# Altium footprint library WiFi_Lib.PcbLib: 36 footprints (part 2 of 3)
Each footprint in its own frame and in the unit in brackets; x right, y up, seen from the top. Pads: shape width x height; smd on the part's side, far side on the other; paste and mask are expansions set on the pad; w line width, h text height; cw(c..) or ccw(c..) is an arc to the next point about the centre after c.
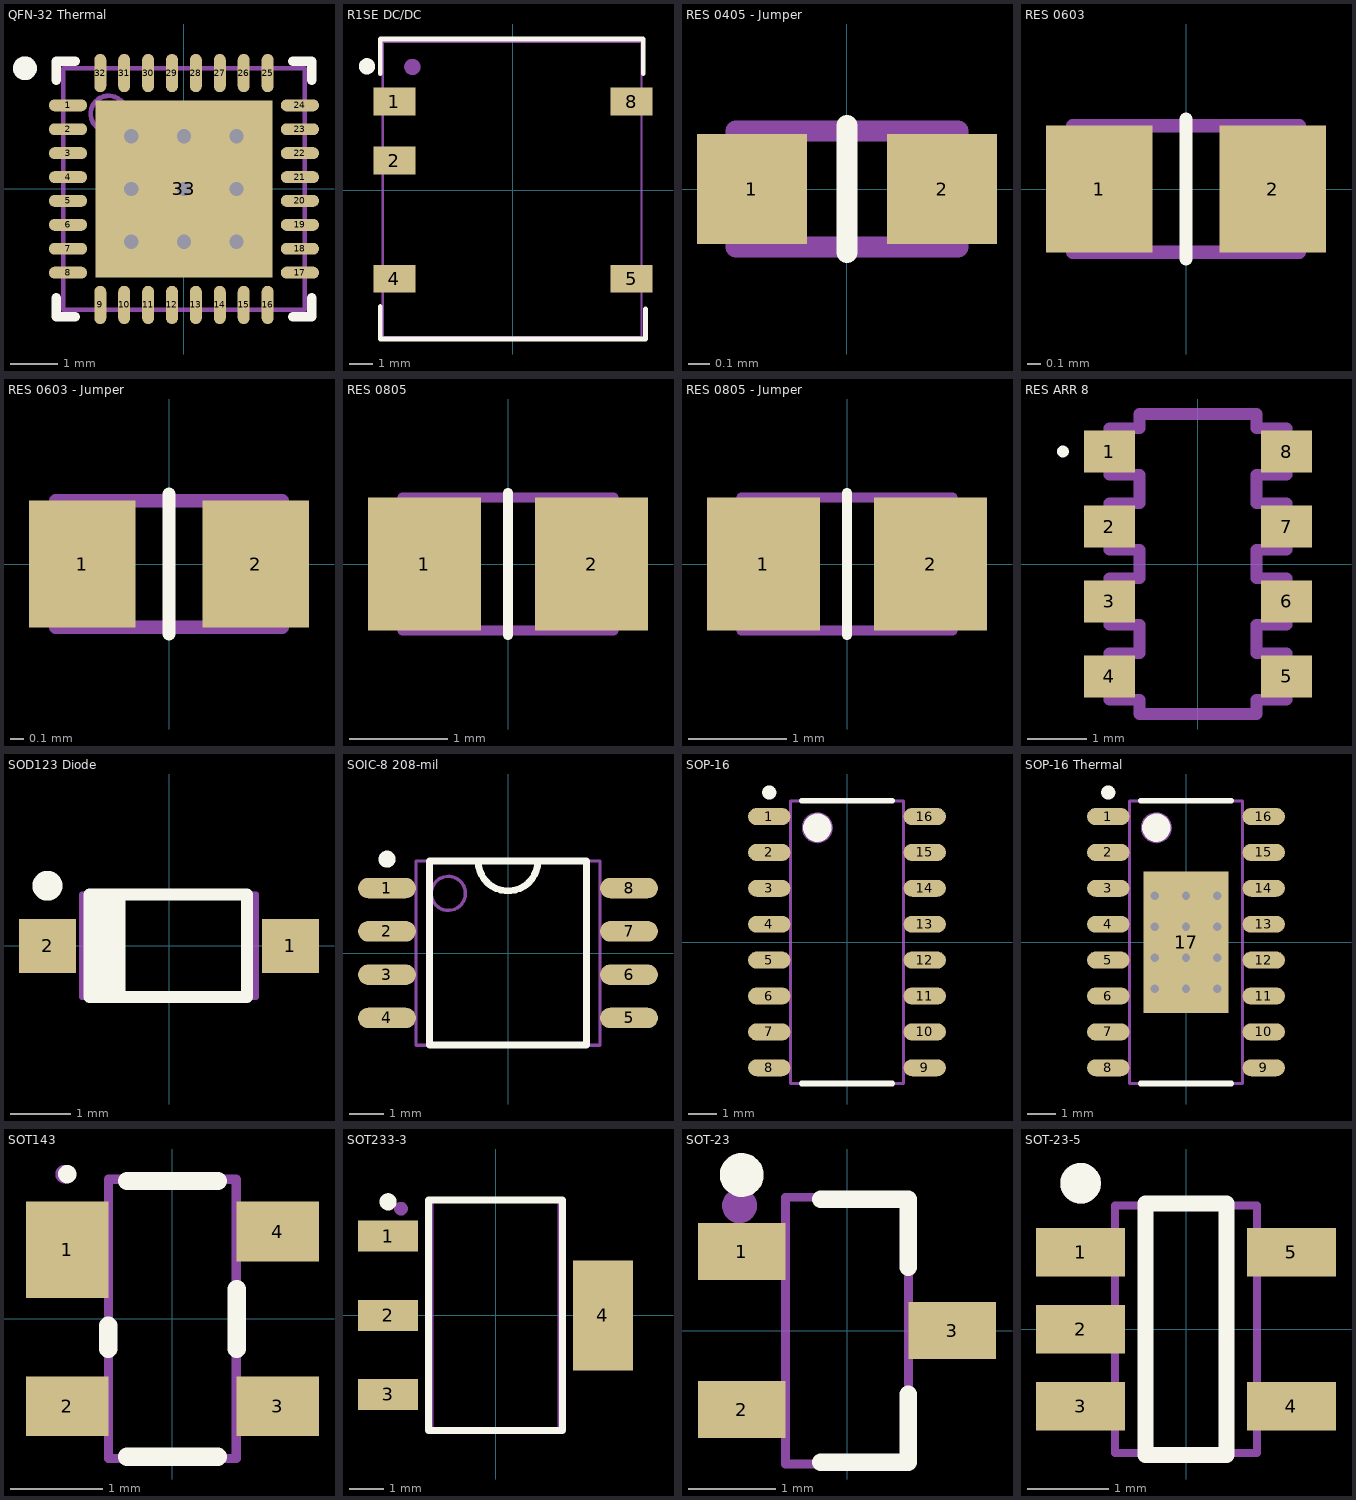
[diagram p1: the footprints below, top view; thin cyan lines are the x and y axes]

## QFN-32 Thermal [mm] "QFN, 32-Leads, Body 5.00x5.00mm, Pitch 0.50mm, Thermal Pad 3.70x3.70mm, IPC Medium Density"
height 0.9
pads (33):
  oval 0.8x0.25 smd: 1(-2.425,1.75) 2(-2.425,1.25) 3(-2.425,0.75) 4(-2.425,0.25) 5(-2.425,-0.25) 6(-2.425,-0.75) 7(-2.425,-1.25) 8(-2.425,-1.75) 17(2.425,-1.75) 18(2.425,-1.25) 19(2.425,-0.75) 20(2.425,-0.25) 21(2.425,0.25) 22(2.425,0.75) 23(2.425,1.25) 24(2.425,1.75)
  oval 0.25x0.8 smd: 9(-1.75,-2.425) 10(-1.25,-2.425) 11(-0.75,-2.425) 12(-0.25,-2.425) 13(0.25,-2.425) 14(0.75,-2.425) 15(1.25,-2.425) 16(1.75,-2.425) 25(1.75,2.425) 26(1.25,2.425) 27(0.75,2.425) 28(0.25,2.425) 29(-0.25,2.425) 30(-0.75,2.425) 31(-1.25,2.425) 32(-1.75,2.425)
  rect 3.7x3.7 smd: 33(0,0)
via 1.1,-1.1 diameter 0.5 hole 0.3
via 0,-1.1 diameter 0.5 hole 0.3
via -1.1,-1.1 diameter 0.5 hole 0.3
via 1.1,0 diameter 0.5 hole 0.3
via 0,0 diameter 0.5 hole 0.3
via -1.1,0 diameter 0.5 hole 0.3
via 1.1,1.1 diameter 0.5 hole 0.3
via 0,1.1 diameter 0.5 hole 0.3
via -1.1,1.1 diameter 0.5 hole 0.3
Top Overlay:
  circle w0.25: c-3.325,2.525 r0.125
  lines w0.2: -2.675,-2.275 -2.675,-2.675 -2.275,-2.675 ; -2.675,2.275 -2.675,2.675 -2.275,2.675 ; 2.275,-2.675 2.675,-2.675 2.675,-2.275 ; 2.275,2.675 2.675,2.675 2.675,2.275
Mechanical 13:
  circle w0.1: c-1.575,1.575 r0.375
  lines w0.1: -2.525,-2.525 2.525,-2.525 2.525,2.525 -2.525,2.525 -2.525,-2.525
  text "'.Designator'" at -1.575,-1.125 h1.5
3D body "QFN-32 Thermal.step": height 0.9, standoff 0, extent -2.575,-2.575 2.575,2.575

## R1SE DC/DC [mm]
pads (5):
  rect 1.8x1.2 smd: 1(-5.1,3.81) 2(-5.1,1.27) 4(-5.1,-3.81) 5(5.1,-3.81) 8(5.1,3.81)
Top Overlay:
  circle w0.4: c-6.275,5.325 r0.15
  lines w0.2: -5.7,-5 -5.7,-6.4 5.7,-6.4 5.7,-5.1 ; -5.7,5 -5.7,6.5 5.6,6.5 5.6,5
Mechanical 13:
  circle w0.4: c-4.325,5.3 r0.15
  lines w0.1: -5.6,-6.325 -5.6,6.375 5.525,6.375 5.525,-6.325 -5.6,-6.325
  text "'.Designator'" at -2.1,-0.75 h2
3D body "R1SE-0505-R--3DModel-STEP-56544.STEP": height 7.01, standoff 0.01, extent -5.6,-6.375 5.5,6.375

## RES 0405 - Jumper [mm] "Chip Resistor, 2-Leads, Body 1.00x0.50mm, IPC Medium Density"
height 0.4
pads (2):
  rect 0.52x0.52 smd mask+0.05: 1(-0.45,0) 2(0.45,0)
Top Overlay:
  lines w0.1: 0,-0.3 0,0.3
Mechanical 13:
  lines w0.1: -0.525,-0.275 0.525,-0.275 0.525,0.275 -0.525,0.275 -0.525,-0.275
  text "'.Designator'" at -0.45,-0.175 h0.3
3D body "RES 0405.step": height 0.4, standoff 0, extent -0.525,-0.275 0.525,0.275

## RES 0603 [mm] "Chip Resistor, 2-Leads, Body 1.60x0.85mm, IPC Medium Density"
height 0.55
pads (2):
  rect 0.8x0.95 smd: 1(-0.65,0) 2(0.65,0)
Top Overlay:
  lines w0.1: 0,-0.525 0,0.525
Mechanical 13:
  lines w0.1: -0.85,-0.475 0.85,-0.475 0.85,0.475 -0.85,0.475 -0.85,-0.475
  text "'.Designator'" at -0.55,-0.275 h0.5
3D body "RESC1608X06N.step": height 0.55, standoff 0, extent -0.85,-0.475 0.85,0.475

## RES 0603 - Jumper [mm] "Chip Resistor, 2-Leads, Body 1.60x0.85mm, IPC Medium Density"
height 0.55
pads (2):
  rect 0.8x0.95 smd: 1(-0.65,0) 2(0.65,0)
Top Overlay:
  lines w0.1: 0,-0.525 0,0.525
Mechanical 13:
  lines w0.1: -0.85,-0.475 -0.85,0.475 0.85,0.475 0.85,-0.475 -0.85,-0.475
  text "'.Designator'" at -0.55,-0.275 h0.5
3D body "RESC1608X06N.step": height 0.55, standoff 0, extent -0.85,-0.475 0.85,0.475

## RES 0805 [mm] "Chip Resistor, 2-Leads, Body 1.95x1.20mm, IPC Medium Density"
height 0.6
pads (2):
  rect 1.15x1.35 smd: 1(-0.85,0) 2(0.85,0)
Top Overlay:
  lines w0.1: 0,-0.725 0,0.725
Mechanical 13:
  lines w0.1: -1.075,-0.675 -1.075,0.675 1.075,0.675 1.075,-0.675 -1.075,-0.675
  text "'.Designator'" at -0.8,-0.5 h1
3D body "RESC1912X06N.step": height 0.6, standoff 0, extent -1.075,-0.675 1.075,0.675

## RES 0805 - Jumper [mm] "Chip Resistor, 2-Leads, Body 1.95x1.20mm, IPC Medium Density"
height 0.6
pads (2):
  rect 1.15x1.35 smd: 1(-0.85,0) 2(0.85,0)
Top Overlay:
  lines w0.1: 0,-0.725 0,0.725
Mechanical 13:
  lines w0.1: -1.075,-0.675 -1.075,0.675 1.075,0.675 1.075,-0.675 -1.075,-0.675
  text "'.Designator'" at -0.875,-0.325 h0.7
3D body "RESC1912X06N.step": height 0.6, standoff 0, extent -1.075,-0.675 1.075,0.675

## RES ARR 8 [mm] "Chip Array, ConvexE, 8-Leads, Pitch 1.27mm, Body 5.08x3.05mm, IPC Medium Density"
height 0.55
pads (8):
  rect 0.86x0.71 smd: 1(-1.5,1.905) 2(-1.5,0.635) 3(-1.5,-0.635) 4(-1.5,-1.905) 5(1.5,-1.905) 6(1.5,-0.635) 7(1.5,0.635) 8(1.5,1.905)
Top Overlay:
  circle w0.1: c-2.286,1.905 r0.05
Mechanical 13:
  lines w0.2: -1.5,-2.3 -1.5,-1.51 -0.99,-1.51 -0.99,-1.03 -1.5,-1.03 -1.5,-0.24 -0.99,-0.24 -0.99,0.24 -1.5,0.24 -1.5,1.03 -0.99,1.03 -0.99,1.51 -1.5,1.51 -1.5,2.3 -0.99,2.3 -0.99,2.54 0.99,2.54 0.99,2.3 1.5,2.3 1.5,1.51 0.99,1.51 0.99,1.03 1.5,1.03 1.5,0.24 0.99,0.24 0.99,-0.24 1.5,-0.24 1.5,-1.03 0.99,-1.03 0.99,-1.51 1.5,-1.51 1.5,-2.3 0.99,-2.3 0.99,-2.54 -0.99,-2.54 -0.99,-2.3 -1.5,-2.3
  text "'.Designator'" at -0.675,-0.425 h1
3D body "RES ARR 8.step": height 0.55, standoff 0, extent -1.575,-2.54 1.575,2.54

## SOD123 Diode [mm] "2-Leads, Body 1.55x2.70mm, IPC Medium Density"
height 1.35
pads (2):
  rect 0.95x0.9 smd: 1(2.025,0) 2(-2.025,0)
Top Overlay:
  circle w0.25: c-2.025,1 r0.125
  rectangle: -1.325,-0.9 -0.725,0.85
  lines w0.2: -1.325,-0.85 -1.325,0.85 1.3,0.85 1.3,-0.85 -1.325,-0.85
Mechanical 13:
  rectangle: -1.45,-0.9 -0.8,0.85
  lines w0.1: -1.45,-0.85 -1.45,0.85 1.45,0.85 1.45,-0.85 -1.45,-0.85
  text "'.Designator'" at -0.55,-0.5 h1
3D body "1N5819HW-7-F--3DModel-STEP-56544.STEP": height 1.53, standoff 0, extent -1.85,-0.775 1.8,0.775

## SOIC-8 208-mil [mm] "SOIC, 8-Leads, Body 5.28x5.28mm, Pitch 1.27mm, IPC Medium Density"
height 2.16
pads (8):
  oval 1.7x0.6 smd: 1(-3.55,1.905) 2(-3.55,0.635) 3(-3.55,-0.635) 4(-3.55,-1.905) 5(3.55,-1.905) 6(3.55,-0.635) 7(3.55,0.635) 8(3.55,1.905)
Top Overlay:
  circle w0.25: c-3.55,2.755 r0.125
  lines w0.2: -0.878,2.7 ccw(c0,2.7) 0.878,2.7 ; -2.3,-2.7 2.3,-2.7 2.3,2.7 -2.3,2.7 -2.3,-2.7
Mechanical 13:
  circle w0.1: c-1.75,1.75 r0.5
  lines w0.1: -2.7,-2.7 2.7,-2.7 2.7,2.7 -2.7,2.7 -2.7,-2.7
  text "'.Designator'" at -1.025,-0.725 h1
3D body "SOIC-8 208-mil.step": height 2.16, standoff 0, extent -3.95,-2.7 3.95,2.7

## SOP-16 [mm] "SOP, 16-Leads, Body 9.90x3.90mm, Pitch 1.27mm, IPC Medium Density"
height 1.75
pads (16):
  oval 1.5x0.6 smd: 1(-2.75,4.445) 2(-2.75,3.175) 3(-2.75,1.905) 4(-2.75,0.635) 5(-2.75,-0.635) 6(-2.75,-1.905) 7(-2.75,-3.175) 8(-2.75,-4.445) 9(2.75,-4.445) 10(2.75,-3.175) 11(2.75,-1.905) 12(2.75,-0.635) 13(2.75,0.635) 14(2.75,1.905) 15(2.75,3.175) 16(2.75,4.445)
Top Overlay:
  circle w0.5: c-1.05,4.05 r0.25
  circle w0.25: c-2.75,5.295 r0.125
  lines w0.2: -1.6,-5 1.6,-5 ; -1.6,5 1.6,5
Mechanical 13:
  circle w0.1: c-1.05,4.05 r0.5
  lines w0.1: -2,-5 2,-5 2,5 -2,5 -2,-5
  text "'.Designator'" at 0.725,-3 h1.5
3D body "SOP-16 Thermal.step": height 1.75, standoff 0, extent -3.025,-5 3.025,5

## SOP-16 Thermal [mm] "SOP, 16-Leads, Body 9.90x3.90mm, Pitch 1.27mm, Thermal Pad 5.00x3.00mm, IPC Medium Density"
height 1.75
pads (17):
  oval 1.5x0.6 smd: 1(-2.75,4.445) 2(-2.75,3.175) 3(-2.75,1.905) 4(-2.75,0.635) 5(-2.75,-0.635) 6(-2.75,-1.905) 7(-2.75,-3.175) 8(-2.75,-4.445) 9(2.75,-4.445) 10(2.75,-3.175) 11(2.75,-1.905) 12(2.75,-0.635) 13(2.75,0.635) 14(2.75,1.905) 15(2.75,3.175) 16(2.75,4.445)
  rect 3x5 smd: 17(0,0)
via -1.1,1.65 diameter 0.5 hole 0.3
via 0,1.65 diameter 0.5 hole 0.3
via 1.1,1.65 diameter 0.5 hole 0.3
via -1.1,0.55 diameter 0.5 hole 0.3
via 0,0.55 diameter 0.5 hole 0.3
via 1.1,0.55 diameter 0.5 hole 0.3
via -1.1,-0.55 diameter 0.5 hole 0.3
via 0,-0.55 diameter 0.5 hole 0.3
via 1.1,-0.55 diameter 0.5 hole 0.3
via -1.1,-1.65 diameter 0.5 hole 0.3
via 0,-1.65 diameter 0.5 hole 0.3
via 1.1,-1.65 diameter 0.5 hole 0.3
Top Overlay:
  circle w0.25: c-2.75,5.295 r0.125
  circle w0.5: c-1.05,4.05 r0.25
  lines w0.2: -1.6,-5 1.6,-5 ; -1.6,5 1.6,5
Mechanical 13:
  circle w0.1: c-1.05,4.05 r0.5
  lines w0.1: -2,-5 -2,5 2,5 2,-5 -2,-5
  text "'.Designator'" at 0.775,-2.2 h1.5
3D body "SOP-16 Thermal.step": height 1.75, standoff 0, extent -3.025,-5 3.025,5

## SOT143 [mm] "SOT143, 4-Leads, Body 2.92x2.29mm, Pitch 1.90mm, IPC Medium Density"
height 1.14
pads (4):
  rect 0.9x1.05 smd: 1(-1.145,0.75)
  rect 0.9x0.65 smd: 2(-1.145,-0.95) 3(1.145,-0.95) 4(1.145,0.95)
Top Overlay:
  circle w0.1: c-1.145,1.575 r0.05
  lines w0.2: -0.7,-0.325 -0.7,-0.075 ; -0.495,-1.5 0.495,-1.5 ; -0.495,1.5 0.495,1.5 ; 0.7,-0.325 0.7,0.325
Mechanical 13:
  circle w0.1: c-1.175,1.575 r0.05
  lines w0.1: -0.695,-1.52 0.695,-1.52 0.695,1.52 -0.695,1.52 -0.695,-1.52
  text "'.Designator'" at 0.575,-1.05 h1
3D body "SOT143.step": height 1.14, standoff 0, extent -1.198,-1.52 1.198,1.52

## SOT233-3 [mm] "SOT223, 4-Leads, Body 6.50x7.00mm (avg), Pitch 2.30mm, IPC Medium Density"
height 1.8
pads (4):
  rect 1.75x0.9 smd: 1(-3.125,2.3) 2(-3.125,0) 3(-3.125,-2.3)
  rect 1.75x3.2 smd: 4(3.125,0)
Top Overlay:
  circle w0.25: c-3.125,3.3 r0.125
  lines w0.2: -1.95,-3.35 -1.95,3.35 1.95,3.35 1.95,-3.35 -1.95,-3.35
Mechanical 13:
  circle w0.2: c-2.75,3.1 r0.1
  lines w0.1: -1.85,-3.35 -1.85,3.35 1.85,3.35 1.85,-3.35 -1.85,-3.35
  text "'.Designator'" at -1.375,-0.525 h1.5
3D body "SOT233-3.step": height 1.8, standoff 0, extent -3.5,-3.35 3.5,3.35

## SOT-23 [mm] "SOT23, 3-Leads, Body 2.92x2.37mm, Pitch 0.90mm, IPC Medium Density"
height 1.12
pads (3):
  rect 1x0.65 smd: 1(-1.2,0.9) 2(-1.2,-0.9) 3(1.2,0)
Top Overlay:
  circle w0.25: c-1.2,1.775 r0.125
  lines w0.2: -0.3,-1.5 0.7,-1.5 0.7,-0.725 ; -0.3,1.5 0.7,1.5 0.7,0.725
Mechanical 13:
  circle w0.2: c-1.225,1.425 r0.1
  lines w0.1: -0.7,-1.52 -0.7,1.52 0.7,1.52 0.7,-1.52 -0.7,-1.52
  text "'.Designator'" at 0.5,-1.225 h1
3D body "SOT-23.step": height 1.12, standoff 0, extent -1.32,-1.52 1.32,1.52

## SOT-23-5 [mm] "SOT23, 5-Leads, Body 2.90x2.80mm, Pitch 0.95mm, IPC Medium Density"
height 1.45
pads (5):
  rect 1.1x0.6 smd: 1(-1.3,0.95) 2(-1.3,0) 3(-1.3,-0.95) 4(1.3,-0.95) 5(1.3,0.95)
Top Overlay:
  circle w0.25: c-1.3,1.8 r0.125
  lines w0.2: -0.5,-1.55 0.5,-1.55 0.5,1.55 -0.5,1.55 -0.5,-1.55
Mechanical 13:
  circle w0.25: c-1.3,1.8 r0.125
  lines w0.1: -0.875,-1.525 -0.875,1.525 0.875,1.525 0.875,-1.525 -0.875,-1.525
  text "'.Designator'" at 0.5,-1.2 h1
3D body "SOT-23-5.step": height 1.45, standoff 0, extent -1.5,-1.525 1.5,1.525